# EAGLE library part SL3S4001 (library nxp_60)
The UHF EPCglobal Generation 2 standard allows the commercialized provision of mass adoption of UHF RFID technology for passive smart tags and labels. Main fields of applications are supply chain management and logistics for worldwide use with special consideration of European, US and Chinese frequencies to ensure that operating distances of several meters can be realized. The UCODE I2C is a product out of the NXP Semiconductors UCODE product family. The entire UCODE product family offers anti-collision and collision arbitration functionality. This allows a reader to simultaneously operate multiple labels/tags within its antenna field. A UCODE I2C based label/ tag requires no external power supply for contactless operation. Its contactless interface generates the power supply via the antenna circuit by propagative energy transmission from the interrogator (reader), while the system clock is generated by an on-chip oscillator. Data transmitted from the interrogator to the label/tag is demodulated by the interface, and it also modulates the interrogator's electromagnetic field for data transmission from the label/tag to the interrogator. A label/tag can be operated without the need for line of sight or battery, as long as it is connected to a dedicated antenna for the targeted frequency range. When the label/tag is within the interrogator's operating range, the high-speed wireless interface allows data transmission in both directions. The UCODE I2C also features an I2C interface to read/write data from its build in memory. In this mode the UCODE I2C needs to be supplied externally. The I2C interface supports standard and fast I2C modes. The used EEPROM is based on a field proven non-volatile memory technology. The EEPROM memory cell is also used in high quality automotive applications. AAL Eindhoven MK
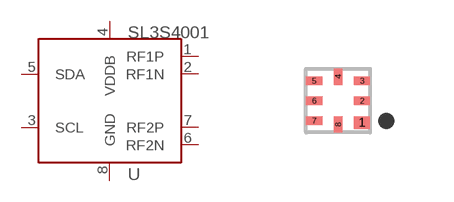
[diagram p68: symbol with the pads of SOT902; footprint SOT902]

Designator prefix U

## SL3S4001  [SOT902]
1  RF1P  pas
2  RF1N  pas
3  SCL
4  VDDB  pwr
5  SDA
6  RF2N  pas
7  RF2P  pas
8  GND  pwr

## Footprint SOT902 (pad centres in mm)
SOT902 XQFN8U: plastic extremely thin quad flat package; no leads; 8 terminals; UTLP based; body 1.6 x 1.6 x 0.5 mm JEDEC: -- IEC: ---
smd 0.4 x 0.32: 1 0.6,-0.55
smd 0.4 x 0.22: 2 0.6,0; 3 0.6,0.5; 5 -0.6,0.5; 6 -0.6,0; 7 -0.6,-0.5
smd 0.22 x 0.4: 4 0,0.6; 8 0,-0.6